# EAGLE library part LTC3539EDCBTRMPBF (library Ava)
2A, 1MHz/2MHz 2A, Synchronous Step-Up DC/DC Converters
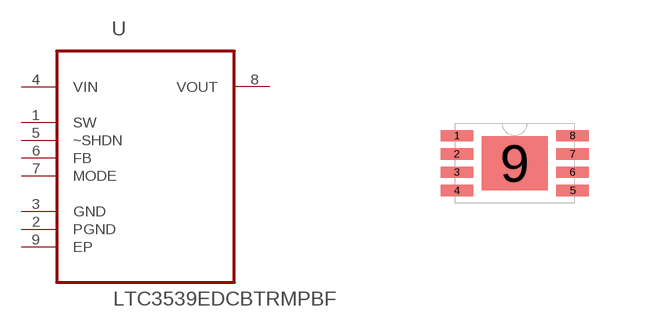
[diagram p55: symbol with the pads of DFN200X300X80-9N; footprint DFN200X300X80-9N]

Designator prefix U

## LTC3539EDCBTRMPBF (MPN: LTC3539EDCB#TRMPBF; OC_FARNELL: 1609734; OC_NEWARK: 14N8610; PACKAGE: DFN-8; SUPPLIER: Linear Technology)  [DFN200X300X80-9N]
1  SW  pas
2  PGND  pas
3  GND  pas
4  VIN  pwr
5  ~SHDN  in
6  FB  in
7  MODE  in
8  VOUT  out
9  EP  pas

## Footprint DFN200X300X80-9N (pad centres in mm)
smd 0.813 x 0.279: 1 -1.448,0.686; 2 -1.448,0.229; 3 -1.448,-0.229; 4 -1.448,-0.686; 5 1.448,-0.686; 6 1.448,-0.229; 7 1.448,0.229; 8 1.448,0.686
smd 1.651 x 1.346: 9 0,0